# Altium footprint library PcbLib1.PcbLib: 8 footprints
Each footprint in its own frame and in the unit in brackets; x right, y up, seen from the top. Pads: shape width x height; smd on the part's side, far side on the other; paste and mask are expansions set on the pad; w line width, h text height; cw(c..) or ccw(c..) is an arc to the next point about the centre after c.
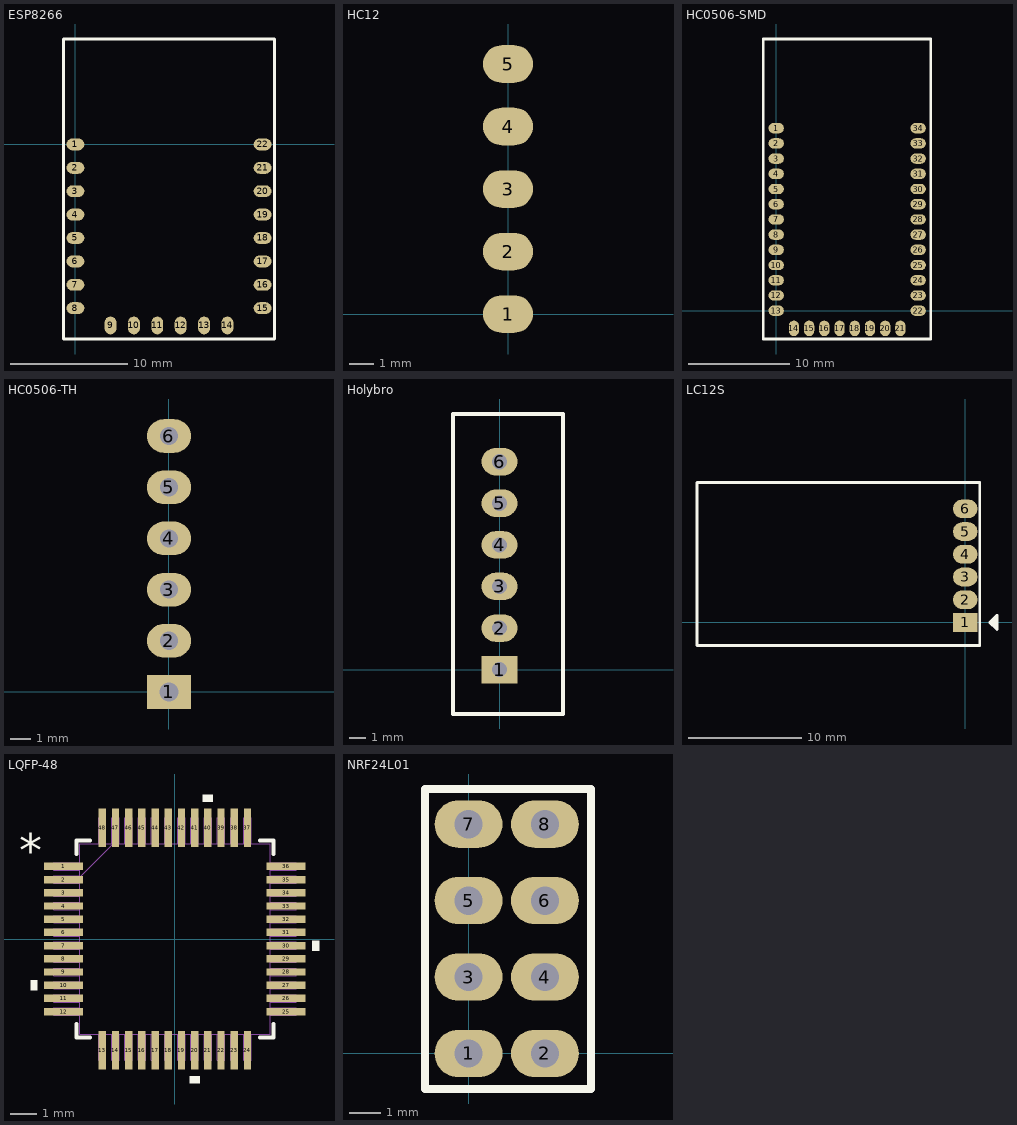
[diagram p0: the footprints below, top view; thin cyan lines are the x and y axes]

## ESP8266 [mil]
pads (22):
  oval 60x40 smd: 1(0,0) 2(0,-78.74) 3(0,-157.48) 4(0,-236.22) 5(0,-314.96) 6(0,-393.7) 7(0,-472.44) 8(0,-551.18) 15(629.92,-551.18) 16(629.92,-472.44) 17(629.92,-393.7) 18(629.92,-314.96) 19(629.92,-236.22) 20(629.92,-157.48) 21(629.92,-78.74) 22(629.92,0)
  oval 40x60 smd: 9(118.11,-609.45) 10(196.85,-609.45) 11(275.59,-609.45) 12(354.33,-609.45) 13(433.07,-609.45) 14(511.81,-609.45)
Top Overlay:
  lines w10: -35,355 670,355 670,-655 -40,-655 -40,355 -5,355
3D body: height 78.74, standoff 0, extent 0,80 0,80
3D body "EPS8266 ESP-12F.STEP": height 104.33, standoff -1.38, extent -0.16,-607.63 630.15,337.45

## HC12 [mil]
pads (5):
  oval 80x60 smd: 1(0,0) 2(0,100) 3(0,200) 4(0,300) 5(0,400)
3D body "HC-12 SI4463 WIRELESS SERIAL MODULE.STEP": height 1027.55, standoff 7.87, extent -1030.46,-66.81 60,456.81

## HC0506-SMD [mil]
pads (34):
  oval 60x40 smd: 1(0,708.66) 2(0,649.61) 3(0,590.55) 4(0,531.5) 5(0,472.44) 6(0,413.39) 7(0,354.33) 8(0,295.28) 9(0,236.22) 10(0,177.17) 11(0,118.11) 12(0,59.06) 13(0,0) 22(551.18,0) 23(551.18,59.06) 24(551.18,118.11) 25(551.18,177.17) 26(551.18,236.22) 27(551.18,295.28) 28(551.18,354.33) 29(551.18,413.39) 30(551.18,472.44) 31(551.18,531.5) 32(551.18,590.55) 33(551.18,649.61) 34(551.18,708.66)
  oval 40x60 smd: 14(68.9,-68.9) 15(127.95,-68.9) 16(187.01,-68.9) 17(246.06,-68.9) 18(305.12,-68.9) 19(364.17,-68.9) 20(423.23,-68.9) 21(482.28,-68.9)
Top Overlay:
  lines w10: 595,1055 -50,1055 -50,-110 600,-110 600,1055
3D body "Bluetooth HC-06_.STEP": height 92.52, standoff 0, extent -0.39,-67.95 551.58,1034.81

## HC0506-TH [mil]
pads (6):
  rect 85x65 hole 36: 1(0,0)
  oval 85x65 hole 35: 2(0,98.82) 3(0,197.64) 4(0,296.46) 5(0,395.28) 6(0,494.09)

## Holybro [mil]
pads (6):
  rect 85x65 hole 36: 1(0,0)
  oval 85x65 hole 36: 2(0,98.43) 3(0,196.85) 4(0,295.28) 5(0,393.7) 6(0,492.13)
Top Overlay:
  lines w10: -110,-105 -110,605 150,605 150,-105 -110,-105
3D body "JST - XH - Thru (V) - 6Pin - 2.54mm.stp": height 284, standoff -118, extent -95,-94 135,590

## LC12S [mil]
pads (6):
  rect 85x65 smd: 1(0,0)
  oval 85x65 smd: 2(0,78.74) 3(0,157.48) 4(0,236.22) 5(0,314.96) 6(0,393.7)
Top Overlay:
  lines w10: 105,10 105,-10 ; 97.5,-2.5 97.5,12.5 105,5 105,-10 ; 97.5,-2.5 95,0 97.5,-2.5 ; 97.5,-2.5 105,-10 ; -930,-80 50,-80 50,485 -930,485 -930,-80 ; 85,0 110,-25 110,25 85,0
3D body "LC12S.STEP": height 78.74, standoff 0, extent -917.32,-69.37 0,470
3D body: height 78.74, standoff 0, extent -505,500 -505,500

## LQFP-48 [mil]
pads (48):
  rect 58x11 smd: 1(-166,108.27) 2(-166,88.58) 3(-166,68.9) 4(-166,49.21) 5(-166,29.53) 6(-166,9.84) 7(-166,-9.84) 8(-166,-29.53) 9(-166,-49.21) 10(-166,-68.9) 11(-166,-88.58) 12(-166,-108.27) 25(166,-108.27) 26(166,-88.58) 27(166,-68.9) 28(166,-49.21) 29(166,-29.53) 30(166,-9.84) 31(166,9.84) 32(166,29.53) 33(166,49.21) 34(166,68.9) 35(166,88.58) 36(166,108.27)
  rect 11x58 smd: 13(-108.27,-166) 14(-88.58,-166) 15(-68.9,-166) 16(-49.21,-166) 17(-29.53,-166) 18(-9.84,-166) 19(9.84,-166) 20(29.53,-166) 21(49.21,-166) 22(68.9,-166) 23(88.58,-166) 24(108.27,-166) 37(108.27,166) 38(88.58,166) 39(68.9,166) 40(49.21,166) 41(29.53,166) 42(9.84,166) 43(-9.84,166) 44(-29.53,166) 45(-49.21,166) 46(-68.9,166) 47(-88.58,166) 48(-108.27,166)
Top Overlay:
  region: -205,-61.4 -215,-61.4 -215,-76.4 -205,-76.4
  region: 37.03,-205 22.03,-205 22.03,-215 37.03,-215
  region: 205,-2.34 215,-2.34 215,-17.34 205,-17.34
  region: 56.71,205 41.71,205 41.71,215 56.71,215
  lines w6: -147,-126.87 -147,-147 -126.87,-147 ; -147,126.87 -147,147 -126.87,147 ; 126.87,-147 147,-147 147,-126.87 ; 126.87,147 147,147 147,126.87
  text "*" at -232.5,108.11 h50
Mechanical 13:
  drawing of 197 lines, arcs and shapes, not listed
  text "*" at -139.5,93.11 h50
3D body "LQFP-48.step": height 63.11, standoff 0, extent -180.98,-180.98 180.99,180.99
3D body: height 10, standoff 0, extent 0,0 10,10

## NRF24L01 [mil]
pads (8):
  oval 86x60 hole 36: 1(0,0) 2(96.85,0) 3(0,96.85) 4(96.85,96.85) 5(0,193.7) 6(96.85,193.7) 7(0,290.55) 8(96.85,290.55)
Top Overlay:
  lines w10: -55,-45 -55,335 155,335 155,-45 -55,-45
3D body "NRF24l01_with_antenna.STEP": height 3797.18, standoff -88.19, extent -85,-160 2828.39,440.4